# Altium schematic symbol library IC_REG_LINEAR_3V3_1V8_SMD.SchLib: 1 symbol
Pins are listed as number, name and electrical type; pins without a type are passive.

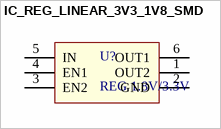
[diagram p0: symbol IC_REG_LINEAR_3V3_1V8_SMD]

## IC_REG_LINEAR_3V3_1V8_SMD
designator U?, comment REG 1.8V/3.3V
Linear Voltage Regulator IC Positive Fixed 2 Output 150mA, 150mA SOT-26; Supplier 1: Digi-Key; Supplier Part Number 1: AP7312-1833W6-7DICT-ND
footprint IC_REG_LINEAR_3V3_1V8_SMD (IC REG LINEAR 1.8V/3.3V SOT26)
pins: 1 OUT2, 2 GND, 3 EN2, 4 EN1, 5 IN, 6 OUT1